# Altium integrated library Linear Technology Operational Amplifiers (LT1000).IntLib: 2280 symbols (part 42 of 79)
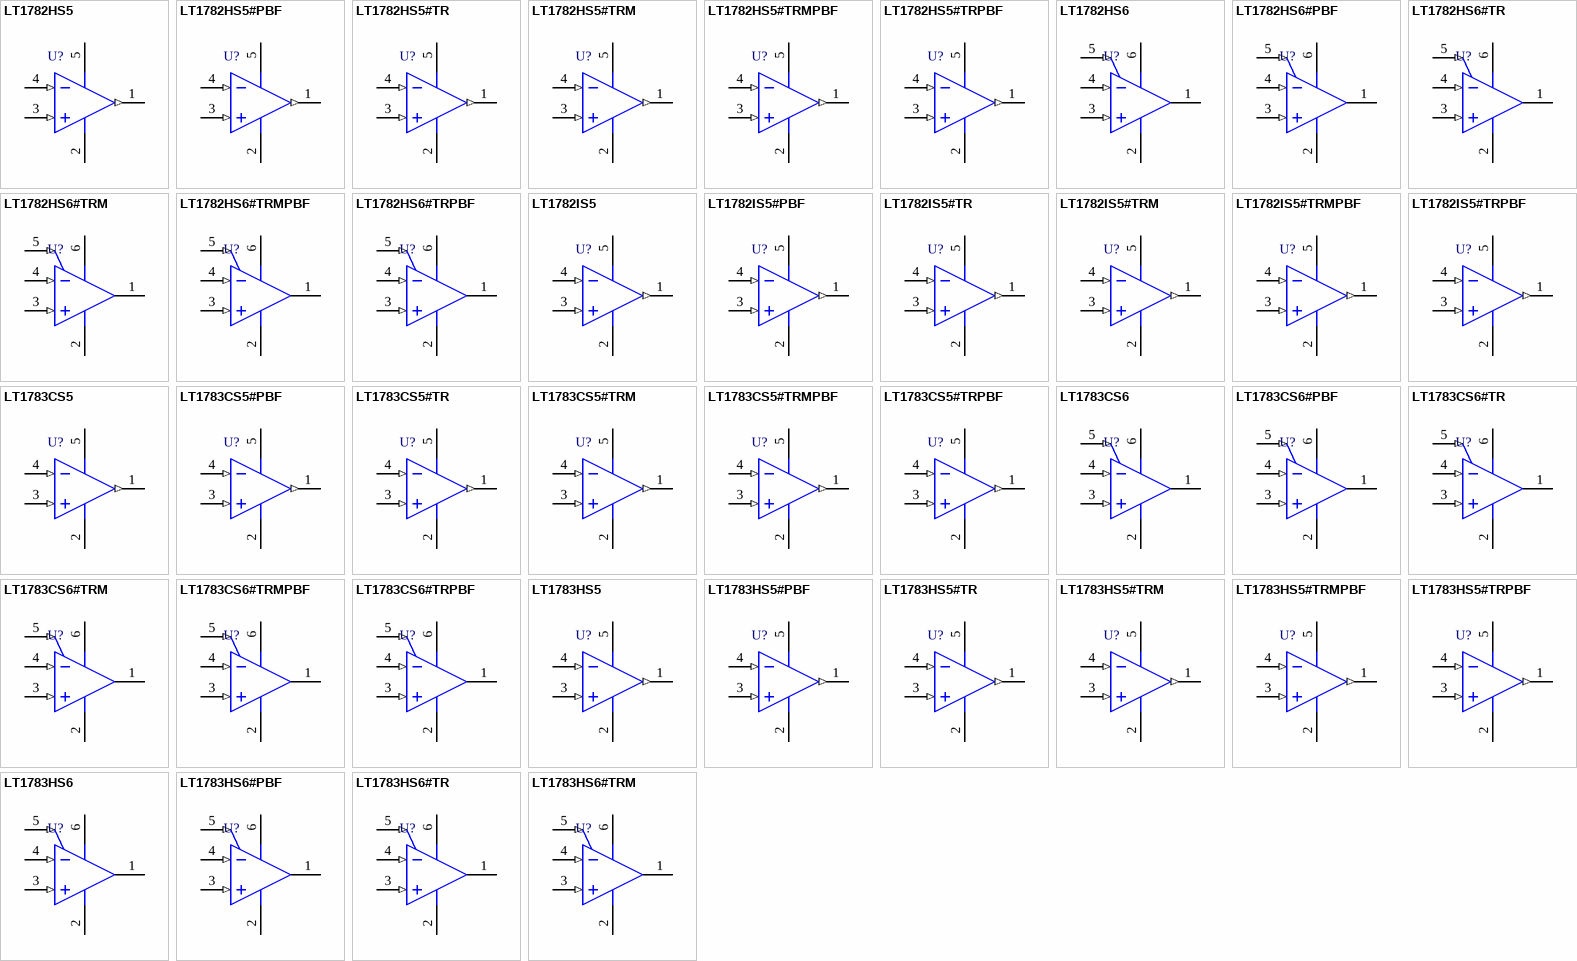
[diagram p146: symbols LT1782HS5 to LT1783HS6#TRM]

## LT1783HS6
designator U?
Single Channel, Micropower, Over-The-Top, Operational Amplifier, RRIO, 1.25 MHz Typical GBW, 0.42 V/us Typical SR, 2.2 to 18 V, 6-Pin SOT23 (S6-6), High Temperature / Automotive; Linear Technology Part Number: LT1783; Manufacturer: Linear Technology; PartNumber: LT1783HS6; Channels (#): 1; GBW (MHz) Typical: 1.25; Is (mA) Typical: 0.21; SR (V/us) Typical: 0.42; Vos (mV) Guaranteed: 0.8; Vos (mV) Typical: 0.4; Vs Max (V): 18; Vs Min (V): 2.2; DatasheetVersion: Rev. D; PackageReference: LT-S6-6-TSOT-23; PackageDescription: 6-Pin Plastic TSOT-23, Body 2.9 x 1.63 mm, Pitch 0.95 mm; Type: VFB; Mounting Technology: Surface Mount; Code_JEDEC: MO-193; ComponentLink1Description: Manufacturer URL; ComponentLink1URL: http://www.linear.com/; ComponentLink2Description: Datasheet; ComponentLink2URL: http://cds.linear.com/docs/en/datasheet/1783fd.pdf; ComponentLink3Description: Package Specification; ComponentLink3URL: http://cds.linear.com/docs/en/packaging/SOT_6_05-08-1636.pdf
footprint LT-S6-6-TSOT-23_N (SOT23, 6-Leads, Body 2.90x1.63mm, Pitch 0.95mm, IPC Medium Density)
footprint LT-S6-6-TSOT-23_L (SOT23, 6-Leads, Body 2.90x1.63mm, Pitch 0.95mm, IPC High Density)
footprint LT-S6-6-TSOT-23_M (SOT23, 6-Leads, Body 2.90x1.63mm, Pitch 0.95mm, IPC Low Density)
pins: 1 OUT (hiz), 2 V- (power), 3 +IN (in), 4 -IN (in), 5 SHDN (in), 6 V+ (power)

## LT1783HS6#PBF
designator U?
Single Channel, Micropower, Over-The-Top, Operational Amplifier, RRIO, 1.25 MHz Typical GBW, 0.42 V/us Typical SR, 2.2 to 18 V, 6-Pin SOT23 (S6-6), High Temperature / Automotive, Pb-Free; Linear Technology Part Number: LT1783; Manufacturer: Linear Technology; PartNumber: LT1783HS6#PBF; Channels (#): 1; GBW (MHz) Typical: 1.25; Is (mA) Typical: 0.21; SR (V/us) Typical: 0.42; Vos (mV) Guaranteed: 0.8; Vos (mV) Typical: 0.4; Vs Max (V): 18; Vs Min (V): 2.2; DatasheetVersion: Rev. D; PackageReference: LT-S6-6-TSOT-23; PackageDescription: 6-Pin Plastic TSOT-23, Body 2.9 x 1.63 mm, Pitch 0.95 mm; Supplier 1: Newark; Supplier Part Number 1: 78T3716; RoHS: Pb-Free; Type: VFB; Mounting Technology: Surface Mount; Code_JEDEC: MO-193; ComponentLink1Description: Manufacturer URL; ComponentLink1URL: http://www.linear.com/; ComponentLink2Description: Datasheet; ComponentLink2URL: http://cds.linear.com/docs/en/datasheet/1783fd.pdf; ComponentLink3Description: Package Specification; ComponentLink3URL: http://cds.linear.com/docs/en/packaging/SOT_6_05-08-1636.pdf
footprint LT-S6-6-TSOT-23_N (SOT23, 6-Leads, Body 2.90x1.63mm, Pitch 0.95mm, IPC Medium Density)
footprint LT-S6-6-TSOT-23_L (SOT23, 6-Leads, Body 2.90x1.63mm, Pitch 0.95mm, IPC High Density)
footprint LT-S6-6-TSOT-23_M (SOT23, 6-Leads, Body 2.90x1.63mm, Pitch 0.95mm, IPC Low Density)
pins: 1 OUT (hiz), 2 V- (power), 3 +IN (in), 4 -IN (in), 5 SHDN (in), 6 V+ (power)

## LT1783HS6#TR
designator U?
Single Channel, Micropower, Over-The-Top, Operational Amplifier, RRIO, 1.25 MHz Typical GBW, 0.42 V/us Typical SR, 2.2 to 18 V, 6-Pin SOT23 (S6-6), High Temperature / Automotive, Reel; Linear Technology Part Number: LT1783; Manufacturer: Linear Technology; PartNumber: LT1783HS6#TR; Channels (#): 1; GBW (MHz) Typical: 1.25; Is (mA) Typical: 0.21; SR (V/us) Typical: 0.42; Vos (mV) Guaranteed: 0.8; Vos (mV) Typical: 0.4; Vs Max (V): 18; Vs Min (V): 2.2; DatasheetVersion: Rev. D; PackageReference: LT-S6-6-TSOT-23; PackageDescription: 6-Pin Plastic TSOT-23, Body 2.9 x 1.63 mm, Pitch 0.95 mm; Supplier 1: Digi-Key; Supplier Part Number 1: LT1783HS6TR-ND; Packing: Reel; Type: VFB; Mounting Technology: Surface Mount; Code_JEDEC: MO-193; ComponentLink1Description: Manufacturer URL; ComponentLink1URL: http://www.linear.com/; ComponentLink2Description: Datasheet; ComponentLink2URL: http://cds.linear.com/docs/en/datasheet/1783fd.pdf; ComponentLink3Description: Package Specification; ComponentLink3URL: http://cds.linear.com/docs/en/packaging/SOT_6_05-08-1636.pdf
footprint LT-S6-6-TSOT-23_N (SOT23, 6-Leads, Body 2.90x1.63mm, Pitch 0.95mm, IPC Medium Density)
footprint LT-S6-6-TSOT-23_L (SOT23, 6-Leads, Body 2.90x1.63mm, Pitch 0.95mm, IPC High Density)
footprint LT-S6-6-TSOT-23_M (SOT23, 6-Leads, Body 2.90x1.63mm, Pitch 0.95mm, IPC Low Density)
pins: 1 OUT (hiz), 2 V- (power), 3 +IN (in), 4 -IN (in), 5 SHDN (in), 6 V+ (power)

## LT1783HS6#TRM
designator U?
Single Channel, Micropower, Over-The-Top, Operational Amplifier, RRIO, 1.25 MHz Typical GBW, 0.42 V/us Typical SR, 2.2 to 18 V, 6-Pin SOT23 (S6-6), High Temperature / Automotive, Mini Reel; Linear Technology Part Number: LT1783; Manufacturer: Linear Technology; PartNumber: LT1783HS6#TRM; Channels (#): 1; GBW (MHz) Typical: 1.25; Is (mA) Typical: 0.21; SR (V/us) Typical: 0.42; Vos (mV) Guaranteed: 0.8; Vos (mV) Typical: 0.4; Vs Max (V): 18; Vs Min (V): 2.2; DatasheetVersion: Rev. D; PackageReference: LT-S6-6-TSOT-23; PackageDescription: 6-Pin Plastic TSOT-23, Body 2.9 x 1.63 mm, Pitch 0.95 mm; Supplier 1: Digi-Key; Supplier Part Number 1: LT1783HS6#TRM-ND; Packing: Mini Reel; Type: VFB; Mounting Technology: Surface Mount; Code_JEDEC: MO-193; ComponentLink1Description: Manufacturer URL; ComponentLink1URL: http://www.linear.com/; ComponentLink2Description: Datasheet; ComponentLink2URL: http://cds.linear.com/docs/en/datasheet/1783fd.pdf; ComponentLink3Description: Package Specification; ComponentLink3URL: http://cds.linear.com/docs/en/packaging/SOT_6_05-08-1636.pdf
footprint LT-S6-6-TSOT-23_N (SOT23, 6-Leads, Body 2.90x1.63mm, Pitch 0.95mm, IPC Medium Density)
footprint LT-S6-6-TSOT-23_L (SOT23, 6-Leads, Body 2.90x1.63mm, Pitch 0.95mm, IPC High Density)
footprint LT-S6-6-TSOT-23_M (SOT23, 6-Leads, Body 2.90x1.63mm, Pitch 0.95mm, IPC Low Density)
pins: 1 OUT (hiz), 2 V- (power), 3 +IN (in), 4 -IN (in), 5 SHDN (in), 6 V+ (power)

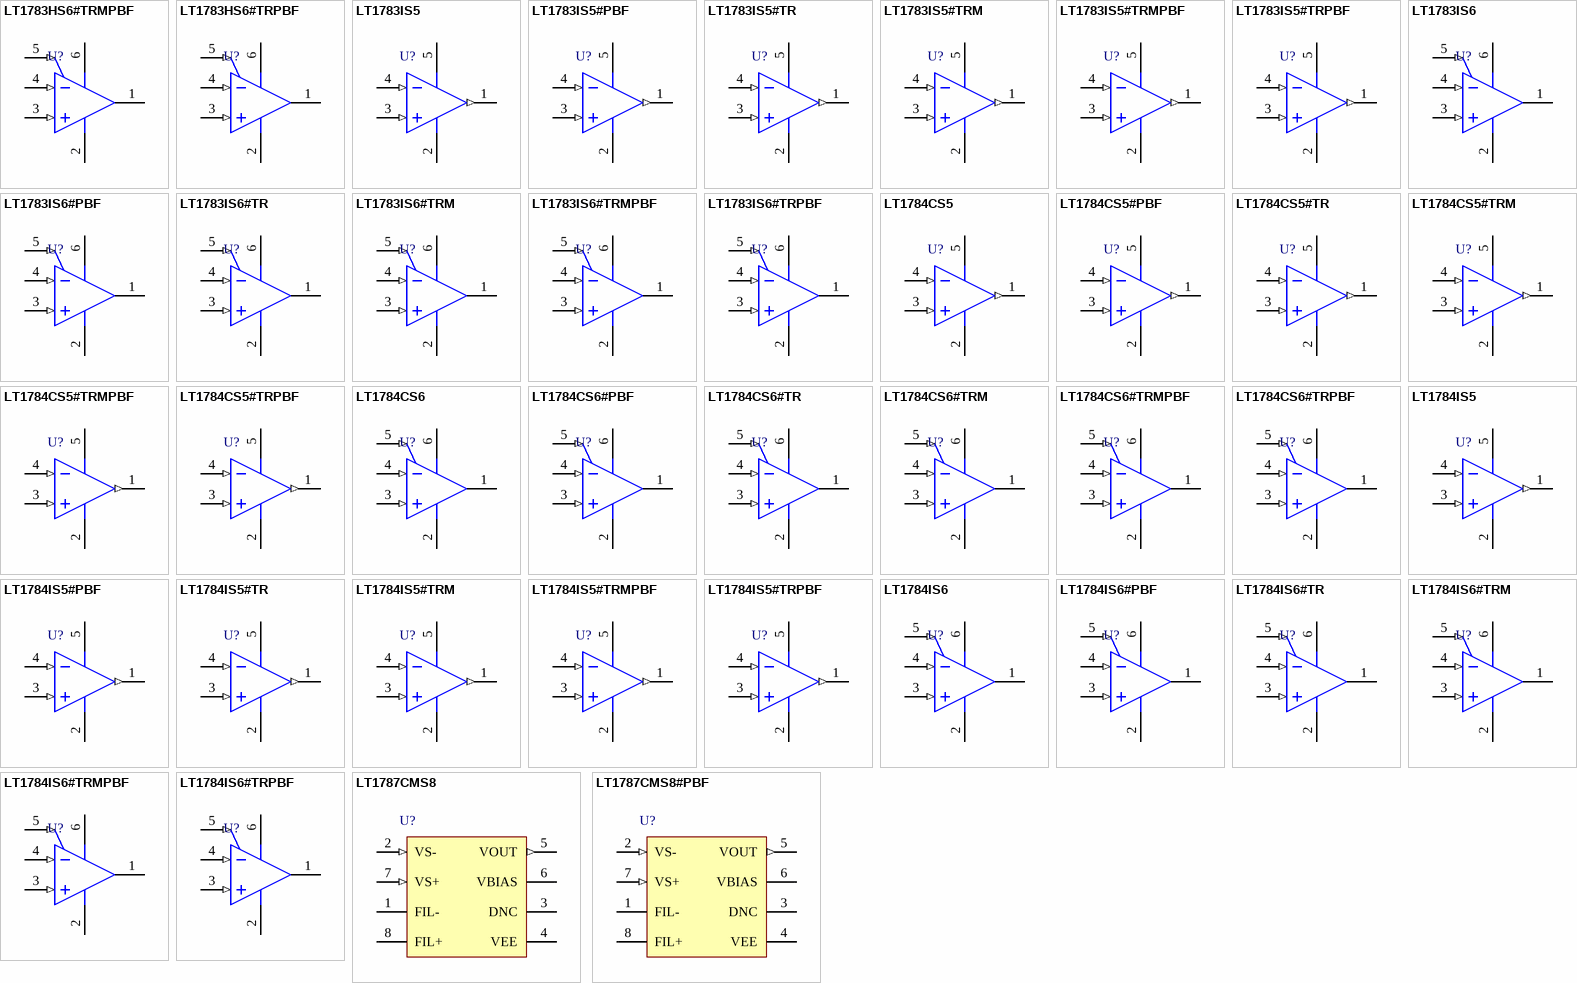
[diagram p70: symbols LT1783HS6#TRMPBF to LT1787CMS8#PBF]

## LT1783HS6#TRMPBF
designator U?
Single Channel, Micropower, Over-The-Top, Operational Amplifier, RRIO, 1.25 MHz Typical GBW, 0.42 V/us Typical SR, 2.2 to 18 V, 6-Pin SOT23 (S6-6), High Temperature / Automotive, Pb-Free, Mini Reel; Linear Technology Part Number: LT1783; Manufacturer: Linear Technology; PartNumber: LT1783HS6#TRMPBF; Channels (#): 1; GBW (MHz) Typical: 1.25; Is (mA) Typical: 0.21; SR (V/us) Typical: 0.42; Vos (mV) Guaranteed: 0.8; Vos (mV) Typical: 0.4; Vs Max (V): 18; Vs Min (V): 2.2; DatasheetVersion: Rev. D; PackageReference: LT-S6-6-TSOT-23; PackageDescription: 6-Pin Plastic TSOT-23, Body 2.9 x 1.63 mm, Pitch 0.95 mm; Supplier 1: Digi-Key; Supplier Part Number 1: LT1783HS6#TRMPBF-ND; Packing: Mini Reel; RoHS: Pb-Free; Type: VFB; Mounting Technology: Surface Mount; Code_JEDEC: MO-193; ComponentLink1Description: Manufacturer URL; ComponentLink1URL: http://www.linear.com/; ComponentLink2Description: Datasheet; ComponentLink2URL: http://cds.linear.com/docs/en/datasheet/1783fd.pdf; ComponentLink3Description: Package Specification; ComponentLink3URL: http://cds.linear.com/docs/en/packaging/SOT_6_05-08-1636.pdf
footprint LT-S6-6-TSOT-23_N (SOT23, 6-Leads, Body 2.90x1.63mm, Pitch 0.95mm, IPC Medium Density)
footprint LT-S6-6-TSOT-23_L (SOT23, 6-Leads, Body 2.90x1.63mm, Pitch 0.95mm, IPC High Density)
footprint LT-S6-6-TSOT-23_M (SOT23, 6-Leads, Body 2.90x1.63mm, Pitch 0.95mm, IPC Low Density)
pins: 1 OUT (hiz), 2 V- (power), 3 +IN (in), 4 -IN (in), 5 SHDN (in), 6 V+ (power)

## LT1783HS6#TRPBF
designator U?
Single Channel, Micropower, Over-The-Top, Operational Amplifier, RRIO, 1.25 MHz Typical GBW, 0.42 V/us Typical SR, 2.2 to 18 V, 6-Pin SOT23 (S6-6), High Temperature / Automotive, Pb-Free, Reel; Linear Technology Part Number: LT1783; Manufacturer: Linear Technology; PartNumber: LT1783HS6#TRPBF; Channels (#): 1; GBW (MHz) Typical: 1.25; Is (mA) Typical: 0.21; SR (V/us) Typical: 0.42; Vos (mV) Guaranteed: 0.8; Vos (mV) Typical: 0.4; Vs Max (V): 18; Vs Min (V): 2.2; DatasheetVersion: Rev. D; PackageReference: LT-S6-6-TSOT-23; PackageDescription: 6-Pin Plastic TSOT-23, Body 2.9 x 1.63 mm, Pitch 0.95 mm; Supplier 1: Digi-Key; Supplier Part Number 1: LT1783HS6#TRPBF-ND; Packing: Reel; RoHS: Pb-Free; Type: VFB; Mounting Technology: Surface Mount; Code_JEDEC: MO-193; ComponentLink1Description: Manufacturer URL; ComponentLink1URL: http://www.linear.com/; ComponentLink2Description: Datasheet; ComponentLink2URL: http://cds.linear.com/docs/en/datasheet/1783fd.pdf; ComponentLink3Description: Package Specification; ComponentLink3URL: http://cds.linear.com/docs/en/packaging/SOT_6_05-08-1636.pdf
footprint LT-S6-6-TSOT-23_N (SOT23, 6-Leads, Body 2.90x1.63mm, Pitch 0.95mm, IPC Medium Density)
footprint LT-S6-6-TSOT-23_L (SOT23, 6-Leads, Body 2.90x1.63mm, Pitch 0.95mm, IPC High Density)
footprint LT-S6-6-TSOT-23_M (SOT23, 6-Leads, Body 2.90x1.63mm, Pitch 0.95mm, IPC Low Density)
pins: 1 OUT (hiz), 2 V- (power), 3 +IN (in), 4 -IN (in), 5 SHDN (in), 6 V+ (power)

## LT1783IS5
designator U?
Single Channel, Micropower, Over-The-Top, Operational Amplifier, RRIO, 1.25 MHz Typical GBW, 0.42 V/us Typical SR, 2.2 to 18 V, 5-Pin SOT23 (S5-5), Industrial; Linear Technology Part Number: LT1783; Manufacturer: Linear Technology; PartNumber: LT1783IS5; Channels (#): 1; GBW (MHz) Typical: 1.25; Is (mA) Typical: 0.21; SR (V/us) Typical: 0.42; Vos (mV) Guaranteed: 0.8; Vos (mV) Typical: 0.4; Vs Max (V): 18; Vs Min (V): 2.2; DatasheetVersion: Rev. D; PackageReference: LT-S5-5-TSOT-23; PackageDescription: 5-Lead Plastic TSOT-23, Body 1.63 x 2.90 mm, Pitch 0.95 mm; Supplier 1: Newark; Supplier Part Number 1: 14R9706; Type: VFB; Mounting Technology: Surface Mount; Code_JEDEC: MO-193; ComponentLink1Description: Manufacturer URL; ComponentLink1URL: http://www.linear.com/; ComponentLink2Description: Datasheet; ComponentLink2URL: http://cds.linear.com/docs/en/datasheet/1783fd.pdf; ComponentLink3Description: Package Specification; ComponentLink3URL: http://cds.linear.com/docs/en/packaging/SOT_5_05-08-1635.pdf
footprint LT-S5-5-TSOT-23_N (SOT23, 5-Leads, Body 2.90x1.63mm, Pitch 0.95mm, IPC Medium Density)
footprint LT-S5-5-TSOT-23_L (SOT23, 5-Leads, Body 2.90x1.63mm, Pitch 0.95mm, IPC High Density)
footprint LT-S5-5-TSOT-23_M (SOT23, 5-Leads, Body 2.90x1.63mm, Pitch 0.95mm, IPC Low Density)
pins: 1 OUT (out), 2 V- (power), 3 +IN (in), 4 -IN (in), 5 V+ (power)

## LT1783IS5#PBF
designator U?
Single Channel, Micropower, Over-The-Top, Operational Amplifier, RRIO, 1.25 MHz Typical GBW, 0.42 V/us Typical SR, 2.2 to 18 V, 5-Pin SOT23 (S5-5), Industrial, Pb-Free; Linear Technology Part Number: LT1783; Manufacturer: Linear Technology; PartNumber: LT1783IS5#PBF; Channels (#): 1; GBW (MHz) Typical: 1.25; Is (mA) Typical: 0.21; SR (V/us) Typical: 0.42; Vos (mV) Guaranteed: 0.8; Vos (mV) Typical: 0.4; Vs Max (V): 18; Vs Min (V): 2.2; DatasheetVersion: Rev. D; PackageReference: LT-S5-5-TSOT-23; PackageDescription: 5-Lead Plastic TSOT-23, Body 1.63 x 2.90 mm, Pitch 0.95 mm; Supplier 1: Farnell; Supplier Part Number 1: 2115808; Supplier 2: Newark; Supplier Part Number 2: 61M3362; RoHS: Pb-Free; Type: VFB; Mounting Technology: Surface Mount; Code_JEDEC: MO-193; ComponentLink1Description: Manufacturer URL; ComponentLink1URL: http://www.linear.com/; ComponentLink2Description: Datasheet; ComponentLink2URL: http://cds.linear.com/docs/en/datasheet/1783fd.pdf; ComponentLink3Description: Package Specification; ComponentLink3URL: http://cds.linear.com/docs/en/packaging/SOT_5_05-08-1635.pdf
footprint LT-S5-5-TSOT-23_N (SOT23, 5-Leads, Body 2.90x1.63mm, Pitch 0.95mm, IPC Medium Density)
footprint LT-S5-5-TSOT-23_L (SOT23, 5-Leads, Body 2.90x1.63mm, Pitch 0.95mm, IPC High Density)
footprint LT-S5-5-TSOT-23_M (SOT23, 5-Leads, Body 2.90x1.63mm, Pitch 0.95mm, IPC Low Density)
pins: 1 OUT (out), 2 V- (power), 3 +IN (in), 4 -IN (in), 5 V+ (power)

## LT1783IS5#TR
designator U?
Single Channel, Micropower, Over-The-Top, Operational Amplifier, RRIO, 1.25 MHz Typical GBW, 0.42 V/us Typical SR, 2.2 to 18 V, 5-Pin SOT23 (S5-5), Industrial, Reel; Linear Technology Part Number: LT1783; Manufacturer: Linear Technology; PartNumber: LT1783IS5#TR; Channels (#): 1; GBW (MHz) Typical: 1.25; Is (mA) Typical: 0.21; SR (V/us) Typical: 0.42; Vos (mV) Guaranteed: 0.8; Vos (mV) Typical: 0.4; Vs Max (V): 18; Vs Min (V): 2.2; DatasheetVersion: Rev. D; PackageReference: LT-S5-5-TSOT-23; PackageDescription: 5-Lead Plastic TSOT-23, Body 1.63 x 2.90 mm, Pitch 0.95 mm; Supplier 1: Digi-Key; Supplier Part Number 1: LT1783IS5TR-ND; Supplier 2: Newark; Supplier Part Number 2: 57M6378; Packing: Reel; Type: VFB; Mounting Technology: Surface Mount; Code_JEDEC: MO-193; ComponentLink1Description: Manufacturer URL; ComponentLink1URL: http://www.linear.com/; ComponentLink2Description: Datasheet; ComponentLink2URL: http://cds.linear.com/docs/en/datasheet/1783fd.pdf; ComponentLink3Description: Package Specification; ComponentLink3URL: http://cds.linear.com/docs/en/packaging/SOT_5_05-08-1635.pdf
footprint LT-S5-5-TSOT-23_N (SOT23, 5-Leads, Body 2.90x1.63mm, Pitch 0.95mm, IPC Medium Density)
footprint LT-S5-5-TSOT-23_L (SOT23, 5-Leads, Body 2.90x1.63mm, Pitch 0.95mm, IPC High Density)
footprint LT-S5-5-TSOT-23_M (SOT23, 5-Leads, Body 2.90x1.63mm, Pitch 0.95mm, IPC Low Density)
pins: 1 OUT (out), 2 V- (power), 3 +IN (in), 4 -IN (in), 5 V+ (power)

## LT1783IS5#TRM
designator U?
Single Channel, Micropower, Over-The-Top, Operational Amplifier, RRIO, 1.25 MHz Typical GBW, 0.42 V/us Typical SR, 2.2 to 18 V, 5-Pin SOT23 (S5-5), Industrial, Mini Reel; Linear Technology Part Number: LT1783; Manufacturer: Linear Technology; PartNumber: LT1783IS5#TRM; Channels (#): 1; GBW (MHz) Typical: 1.25; Is (mA) Typical: 0.21; SR (V/us) Typical: 0.42; Vos (mV) Guaranteed: 0.8; Vos (mV) Typical: 0.4; Vs Max (V): 18; Vs Min (V): 2.2; DatasheetVersion: Rev. D; PackageReference: LT-S5-5-TSOT-23; PackageDescription: 5-Lead Plastic TSOT-23, Body 1.63 x 2.90 mm, Pitch 0.95 mm; Supplier 1: Digi-Key; Supplier Part Number 1: LT1783IS5#TRMTR-ND; Supplier 2: Digi-Key; Supplier Part Number 2: LT1783IS5#TRMCT-ND; Supplier 3: Newark; Supplier Part Number 3: 57M6379; Packing: Mini Reel; Type: VFB; Mounting Technology: Surface Mount; Code_JEDEC: MO-193; ComponentLink1Description: Manufacturer URL; ComponentLink1URL: http://www.linear.com/; ComponentLink2Description: Datasheet; ComponentLink2URL: http://cds.linear.com/docs/en/datasheet/1783fd.pdf; ComponentLink3Description: Package Specification; ComponentLink3URL: http://cds.linear.com/docs/en/packaging/SOT_5_05-08-1635.pdf
footprint LT-S5-5-TSOT-23_N (SOT23, 5-Leads, Body 2.90x1.63mm, Pitch 0.95mm, IPC Medium Density)
footprint LT-S5-5-TSOT-23_L (SOT23, 5-Leads, Body 2.90x1.63mm, Pitch 0.95mm, IPC High Density)
footprint LT-S5-5-TSOT-23_M (SOT23, 5-Leads, Body 2.90x1.63mm, Pitch 0.95mm, IPC Low Density)
pins: 1 OUT (out), 2 V- (power), 3 +IN (in), 4 -IN (in), 5 V+ (power)

## LT1783IS5#TRMPBF
designator U?
Single Channel, Micropower, Over-The-Top, Operational Amplifier, RRIO, 1.25 MHz Typical GBW, 0.42 V/us Typical SR, 2.2 to 18 V, 5-Pin SOT23 (S5-5), Industrial, Pb-Free, Mini Reel; Linear Technology Part Number: LT1783; Manufacturer: Linear Technology; PartNumber: LT1783IS5#TRMPBF; Channels (#): 1; GBW (MHz) Typical: 1.25; Is (mA) Typical: 0.21; SR (V/us) Typical: 0.42; Vos (mV) Guaranteed: 0.8; Vos (mV) Typical: 0.4; Vs Max (V): 18; Vs Min (V): 2.2; DatasheetVersion: Rev. D; PackageReference: LT-S5-5-TSOT-23; PackageDescription: 5-Lead Plastic TSOT-23, Body 1.63 x 2.90 mm, Pitch 0.95 mm; Supplier 1: Digi-Key; Supplier Part Number 1: LT1783IS5#TRMPBFTR-ND; Supplier 2: Digi-Key; Supplier Part Number 2: LT1783IS5#TRMPBFCT-ND; Supplier 3: Digi-Key; Supplier Part Number 3: LT1783IS5#TRMPBFDKR-ND; Supplier 4: Farnell; Supplier Part Number 4: 1663789; Supplier 5: Farnell; Supplier Part Number 5: 1663789RL; Supplier 6: Newark; Supplier Part Number 6: 57M6380; Packing: Mini Reel; RoHS: Pb-Free; Type: VFB; Mounting Technology: Surface Mount; Code_JEDEC: MO-193; ComponentLink1Description: Manufacturer URL; ComponentLink1URL: http://www.linear.com/; ComponentLink2Description: Datasheet; ComponentLink2URL: http://cds.linear.com/docs/en/datasheet/1783fd.pdf; ComponentLink3Description: Package Specification; ComponentLink3URL: http://cds.linear.com/docs/en/packaging/SOT_5_05-08-1635.pdf
footprint LT-S5-5-TSOT-23_N (SOT23, 5-Leads, Body 2.90x1.63mm, Pitch 0.95mm, IPC Medium Density)
footprint LT-S5-5-TSOT-23_L (SOT23, 5-Leads, Body 2.90x1.63mm, Pitch 0.95mm, IPC High Density)
footprint LT-S5-5-TSOT-23_M (SOT23, 5-Leads, Body 2.90x1.63mm, Pitch 0.95mm, IPC Low Density)
pins: 1 OUT (out), 2 V- (power), 3 +IN (in), 4 -IN (in), 5 V+ (power)

## LT1783IS5#TRPBF
designator U?
Single Channel, Micropower, Over-The-Top, Operational Amplifier, RRIO, 1.25 MHz Typical GBW, 0.42 V/us Typical SR, 2.2 to 18 V, 5-Pin SOT23 (S5-5), Industrial, Pb-Free, Reel; Linear Technology Part Number: LT1783; Manufacturer: Linear Technology; PartNumber: LT1783IS5#TRPBF; Channels (#): 1; GBW (MHz) Typical: 1.25; Is (mA) Typical: 0.21; SR (V/us) Typical: 0.42; Vos (mV) Guaranteed: 0.8; Vos (mV) Typical: 0.4; Vs Max (V): 18; Vs Min (V): 2.2; DatasheetVersion: Rev. D; PackageReference: LT-S5-5-TSOT-23; PackageDescription: 5-Lead Plastic TSOT-23, Body 1.63 x 2.90 mm, Pitch 0.95 mm; Supplier 1: Digi-Key; Supplier Part Number 1: LT1783IS5#TRPBF-ND; Supplier 2: Newark; Supplier Part Number 2: 57M6381; Packing: Reel; RoHS: Pb-Free; Type: VFB; Mounting Technology: Surface Mount; Code_JEDEC: MO-193; ComponentLink1Description: Manufacturer URL; ComponentLink1URL: http://www.linear.com/; ComponentLink2Description: Datasheet; ComponentLink2URL: http://cds.linear.com/docs/en/datasheet/1783fd.pdf; ComponentLink3Description: Package Specification; ComponentLink3URL: http://cds.linear.com/docs/en/packaging/SOT_5_05-08-1635.pdf
footprint LT-S5-5-TSOT-23_N (SOT23, 5-Leads, Body 2.90x1.63mm, Pitch 0.95mm, IPC Medium Density)
footprint LT-S5-5-TSOT-23_L (SOT23, 5-Leads, Body 2.90x1.63mm, Pitch 0.95mm, IPC High Density)
footprint LT-S5-5-TSOT-23_M (SOT23, 5-Leads, Body 2.90x1.63mm, Pitch 0.95mm, IPC Low Density)
pins: 1 OUT (out), 2 V- (power), 3 +IN (in), 4 -IN (in), 5 V+ (power)

## LT1783IS6
designator U?
Single Channel, Micropower, Over-The-Top, Operational Amplifier, RRIO, 1.25 MHz Typical GBW, 0.42 V/us Typical SR, 2.2 to 18 V, 6-Pin SOT23 (S6-6), Industrial; Linear Technology Part Number: LT1783; Manufacturer: Linear Technology; PartNumber: LT1783IS6; Channels (#): 1; GBW (MHz) Typical: 1.25; Is (mA) Typical: 0.21; SR (V/us) Typical: 0.42; Vos (mV) Guaranteed: 0.8; Vos (mV) Typical: 0.4; Vs Max (V): 18; Vs Min (V): 2.2; DatasheetVersion: Rev. D; PackageReference: LT-S6-6-TSOT-23; PackageDescription: 6-Pin Plastic TSOT-23, Body 2.9 x 1.63 mm, Pitch 0.95 mm; Type: VFB; Mounting Technology: Surface Mount; Code_JEDEC: MO-193; ComponentLink1Description: Manufacturer URL; ComponentLink1URL: http://www.linear.com/; ComponentLink2Description: Datasheet; ComponentLink2URL: http://cds.linear.com/docs/en/datasheet/1783fd.pdf; ComponentLink3Description: Package Specification; ComponentLink3URL: http://cds.linear.com/docs/en/packaging/SOT_6_05-08-1636.pdf
footprint LT-S6-6-TSOT-23_N (SOT23, 6-Leads, Body 2.90x1.63mm, Pitch 0.95mm, IPC Medium Density)
footprint LT-S6-6-TSOT-23_L (SOT23, 6-Leads, Body 2.90x1.63mm, Pitch 0.95mm, IPC High Density)
footprint LT-S6-6-TSOT-23_M (SOT23, 6-Leads, Body 2.90x1.63mm, Pitch 0.95mm, IPC Low Density)
pins: 1 OUT (hiz), 2 V- (power), 3 +IN (in), 4 -IN (in), 5 SHDN (in), 6 V+ (power)

## LT1783IS6#PBF
designator U?
Single Channel, Micropower, Over-The-Top, Operational Amplifier, RRIO, 1.25 MHz Typical GBW, 0.42 V/us Typical SR, 2.2 to 18 V, 6-Pin SOT23 (S6-6), Industrial, Pb-Free; Linear Technology Part Number: LT1783; Manufacturer: Linear Technology; PartNumber: LT1783IS6#PBF; Channels (#): 1; GBW (MHz) Typical: 1.25; Is (mA) Typical: 0.21; SR (V/us) Typical: 0.42; Vos (mV) Guaranteed: 0.8; Vos (mV) Typical: 0.4; Vs Max (V): 18; Vs Min (V): 2.2; DatasheetVersion: Rev. D; PackageReference: LT-S6-6-TSOT-23; PackageDescription: 6-Pin Plastic TSOT-23, Body 2.9 x 1.63 mm, Pitch 0.95 mm; Supplier 1: Newark; Supplier Part Number 1: 78T3717; RoHS: Pb-Free; Type: VFB; Mounting Technology: Surface Mount; Code_JEDEC: MO-193; ComponentLink1Description: Manufacturer URL; ComponentLink1URL: http://www.linear.com/; ComponentLink2Description: Datasheet; ComponentLink2URL: http://cds.linear.com/docs/en/datasheet/1783fd.pdf; ComponentLink3Description: Package Specification; ComponentLink3URL: http://cds.linear.com/docs/en/packaging/SOT_6_05-08-1636.pdf
footprint LT-S6-6-TSOT-23_N (SOT23, 6-Leads, Body 2.90x1.63mm, Pitch 0.95mm, IPC Medium Density)
footprint LT-S6-6-TSOT-23_L (SOT23, 6-Leads, Body 2.90x1.63mm, Pitch 0.95mm, IPC High Density)
footprint LT-S6-6-TSOT-23_M (SOT23, 6-Leads, Body 2.90x1.63mm, Pitch 0.95mm, IPC Low Density)
pins: 1 OUT (hiz), 2 V- (power), 3 +IN (in), 4 -IN (in), 5 SHDN (in), 6 V+ (power)

## LT1783IS6#TR
designator U?
Single Channel, Micropower, Over-The-Top, Operational Amplifier, RRIO, 1.25 MHz Typical GBW, 0.42 V/us Typical SR, 2.2 to 18 V, 6-Pin SOT23 (S6-6), Industrial, Reel; Linear Technology Part Number: LT1783; Manufacturer: Linear Technology; PartNumber: LT1783IS6#TR; Channels (#): 1; GBW (MHz) Typical: 1.25; Is (mA) Typical: 0.21; SR (V/us) Typical: 0.42; Vos (mV) Guaranteed: 0.8; Vos (mV) Typical: 0.4; Vs Max (V): 18; Vs Min (V): 2.2; DatasheetVersion: Rev. D; PackageReference: LT-S6-6-TSOT-23; PackageDescription: 6-Pin Plastic TSOT-23, Body 2.9 x 1.63 mm, Pitch 0.95 mm; Supplier 1: Digi-Key; Supplier Part Number 1: LT1783IS6TR-ND; Packing: Reel; Type: VFB; Mounting Technology: Surface Mount; Code_JEDEC: MO-193; ComponentLink1Description: Manufacturer URL; ComponentLink1URL: http://www.linear.com/; ComponentLink2Description: Datasheet; ComponentLink2URL: http://cds.linear.com/docs/en/datasheet/1783fd.pdf; ComponentLink3Description: Package Specification; ComponentLink3URL: http://cds.linear.com/docs/en/packaging/SOT_6_05-08-1636.pdf
footprint LT-S6-6-TSOT-23_N (SOT23, 6-Leads, Body 2.90x1.63mm, Pitch 0.95mm, IPC Medium Density)
footprint LT-S6-6-TSOT-23_L (SOT23, 6-Leads, Body 2.90x1.63mm, Pitch 0.95mm, IPC High Density)
footprint LT-S6-6-TSOT-23_M (SOT23, 6-Leads, Body 2.90x1.63mm, Pitch 0.95mm, IPC Low Density)
pins: 1 OUT (hiz), 2 V- (power), 3 +IN (in), 4 -IN (in), 5 SHDN (in), 6 V+ (power)

## LT1783IS6#TRM
designator U?
Single Channel, Micropower, Over-The-Top, Operational Amplifier, RRIO, 1.25 MHz Typical GBW, 0.42 V/us Typical SR, 2.2 to 18 V, 6-Pin SOT23 (S6-6), Industrial, Mini Reel; Linear Technology Part Number: LT1783; Manufacturer: Linear Technology; PartNumber: LT1783IS6#TRM; Channels (#): 1; GBW (MHz) Typical: 1.25; Is (mA) Typical: 0.21; SR (V/us) Typical: 0.42; Vos (mV) Guaranteed: 0.8; Vos (mV) Typical: 0.4; Vs Max (V): 18; Vs Min (V): 2.2; DatasheetVersion: Rev. D; PackageReference: LT-S6-6-TSOT-23; PackageDescription: 6-Pin Plastic TSOT-23, Body 2.9 x 1.63 mm, Pitch 0.95 mm; Supplier 1: Digi-Key; Supplier Part Number 1: LT1783IS6#TRMTR-ND; Supplier 2: Digi-Key; Supplier Part Number 2: LT1783IS6#TRMCT-ND; Packing: Mini Reel; Type: VFB; Mounting Technology: Surface Mount; Code_JEDEC: MO-193; ComponentLink1Description: Manufacturer URL; ComponentLink1URL: http://www.linear.com/; ComponentLink2Description: Datasheet; ComponentLink2URL: http://cds.linear.com/docs/en/datasheet/1783fd.pdf; ComponentLink3Description: Package Specification; ComponentLink3URL: http://cds.linear.com/docs/en/packaging/SOT_6_05-08-1636.pdf
footprint LT-S6-6-TSOT-23_N (SOT23, 6-Leads, Body 2.90x1.63mm, Pitch 0.95mm, IPC Medium Density)
footprint LT-S6-6-TSOT-23_L (SOT23, 6-Leads, Body 2.90x1.63mm, Pitch 0.95mm, IPC High Density)
footprint LT-S6-6-TSOT-23_M (SOT23, 6-Leads, Body 2.90x1.63mm, Pitch 0.95mm, IPC Low Density)
pins: 1 OUT (hiz), 2 V- (power), 3 +IN (in), 4 -IN (in), 5 SHDN (in), 6 V+ (power)

## LT1783IS6#TRMPBF
designator U?
Single Channel, Micropower, Over-The-Top, Operational Amplifier, RRIO, 1.25 MHz Typical GBW, 0.42 V/us Typical SR, 2.2 to 18 V, 6-Pin SOT23 (S6-6), Industrial, Pb-Free, Mini Reel; Linear Technology Part Number: LT1783; Manufacturer: Linear Technology; PartNumber: LT1783IS6#TRMPBF; Channels (#): 1; GBW (MHz) Typical: 1.25; Is (mA) Typical: 0.21; SR (V/us) Typical: 0.42; Vos (mV) Guaranteed: 0.8; Vos (mV) Typical: 0.4; Vs Max (V): 18; Vs Min (V): 2.2; DatasheetVersion: Rev. D; PackageReference: LT-S6-6-TSOT-23; PackageDescription: 6-Pin Plastic TSOT-23, Body 2.9 x 1.63 mm, Pitch 0.95 mm; Supplier 1: Digi-Key; Supplier Part Number 1: LT1783IS6#TRMPBFTR-ND; Supplier 2: Digi-Key; Supplier Part Number 2: LT1783IS6#TRMPBFCT-ND; Supplier 3: Digi-Key; Supplier Part Number 3: LT1783IS6#TRMPBFDKR-ND; Supplier 4: Newark; Supplier Part Number 4: 57M6384; Packing: Mini Reel; RoHS: Pb-Free; Type: VFB; Mounting Technology: Surface Mount; Code_JEDEC: MO-193; ComponentLink1Description: Manufacturer URL; ComponentLink1URL: http://www.linear.com/; ComponentLink2Description: Datasheet; ComponentLink2URL: http://cds.linear.com/docs/en/datasheet/1783fd.pdf; ComponentLink3Description: Package Specification; ComponentLink3URL: http://cds.linear.com/docs/en/packaging/SOT_6_05-08-1636.pdf
footprint LT-S6-6-TSOT-23_N (SOT23, 6-Leads, Body 2.90x1.63mm, Pitch 0.95mm, IPC Medium Density)
footprint LT-S6-6-TSOT-23_L (SOT23, 6-Leads, Body 2.90x1.63mm, Pitch 0.95mm, IPC High Density)
footprint LT-S6-6-TSOT-23_M (SOT23, 6-Leads, Body 2.90x1.63mm, Pitch 0.95mm, IPC Low Density)
pins: 1 OUT (hiz), 2 V- (power), 3 +IN (in), 4 -IN (in), 5 SHDN (in), 6 V+ (power)

## LT1783IS6#TRPBF
designator U?
Single Channel, Micropower, Over-The-Top, Operational Amplifier, RRIO, 1.25 MHz Typical GBW, 0.42 V/us Typical SR, 2.2 to 18 V, 6-Pin SOT23 (S6-6), Industrial, Pb-Free, Reel; Linear Technology Part Number: LT1783; Manufacturer: Linear Technology; PartNumber: LT1783IS6#TRPBF; Channels (#): 1; GBW (MHz) Typical: 1.25; Is (mA) Typical: 0.21; SR (V/us) Typical: 0.42; Vos (mV) Guaranteed: 0.8; Vos (mV) Typical: 0.4; Vs Max (V): 18; Vs Min (V): 2.2; DatasheetVersion: Rev. D; PackageReference: LT-S6-6-TSOT-23; PackageDescription: 6-Pin Plastic TSOT-23, Body 2.9 x 1.63 mm, Pitch 0.95 mm; Supplier 1: Digi-Key; Supplier Part Number 1: LT1783IS6#TRPBF-ND; Supplier 2: Newark; Supplier Part Number 2: 57M6385; Packing: Reel; RoHS: Pb-Free; Type: VFB; Mounting Technology: Surface Mount; Code_JEDEC: MO-193; ComponentLink1Description: Manufacturer URL; ComponentLink1URL: http://www.linear.com/; ComponentLink2Description: Datasheet; ComponentLink2URL: http://cds.linear.com/docs/en/datasheet/1783fd.pdf; ComponentLink3Description: Package Specification; ComponentLink3URL: http://cds.linear.com/docs/en/packaging/SOT_6_05-08-1636.pdf
footprint LT-S6-6-TSOT-23_N (SOT23, 6-Leads, Body 2.90x1.63mm, Pitch 0.95mm, IPC Medium Density)
footprint LT-S6-6-TSOT-23_L (SOT23, 6-Leads, Body 2.90x1.63mm, Pitch 0.95mm, IPC High Density)
footprint LT-S6-6-TSOT-23_M (SOT23, 6-Leads, Body 2.90x1.63mm, Pitch 0.95mm, IPC Low Density)
pins: 1 OUT (hiz), 2 V- (power), 3 +IN (in), 4 -IN (in), 5 SHDN (in), 6 V+ (power)

## LT1784CS5
designator U?
Single Channel, Low Power Operational Amplifier with Shutdown, RRIO, 2.5 MHz Typical GBW, 2.1 V/us Typical SR, 2 to 18 V, 5-Pin SOT23 (S5-5), Commercial; Linear Technology Part Number: LT1784; Manufacturer: Linear Technology; PartNumber: LT1784CS5; Channels (#): 1; GBW (MHz) Typical: 2.5; Is (mA) Typical: 0.5; SR (V/us) Typical: 2.1; Vos (mV) Guaranteed: 3.5; Vos (mV) Typical: 1.5; Vs Max (V): 18; Vs Min (V): 2; DatasheetVersion: Rev. A; PackageReference: LT-S5-5-TSOT-23; PackageDescription: 5-Lead Plastic TSOT-23, Body 1.63 x 2.90 mm, Pitch 0.95 mm; Type: VFB; Mounting Technology: Surface Mount; Code_JEDEC: MO-193; ComponentLink1Description: Manufacturer URL; ComponentLink1URL: http://www.linear.com/; ComponentLink2Description: Datasheet; ComponentLink2URL: http://cds.linear.com/docs/en/datasheet/1784fa.pdf; ComponentLink3Description: Package Specification; ComponentLink3URL: http://cds.linear.com/docs/en/packaging/SOT_5_05-08-1635.pdf
footprint LT-S5-5-TSOT-23_N (SOT23, 5-Leads, Body 2.90x1.63mm, Pitch 0.95mm, IPC Medium Density)
footprint LT-S5-5-TSOT-23_L (SOT23, 5-Leads, Body 2.90x1.63mm, Pitch 0.95mm, IPC High Density)
footprint LT-S5-5-TSOT-23_M (SOT23, 5-Leads, Body 2.90x1.63mm, Pitch 0.95mm, IPC Low Density)
pins: 1 OUT (out), 2 V- (power), 3 +IN (in), 4 -IN (in), 5 V+ (power)

## LT1784CS5#PBF
designator U?
Single Channel, Low Power Operational Amplifier with Shutdown, RRIO, 2.5 MHz Typical GBW, 2.1 V/us Typical SR, 2 to 18 V, 5-Pin SOT23 (S5-5), Commercial, Pb-Free; Linear Technology Part Number: LT1784; Manufacturer: Linear Technology; PartNumber: LT1784CS5#PBF; Channels (#): 1; GBW (MHz) Typical: 2.5; Is (mA) Typical: 0.5; SR (V/us) Typical: 2.1; Vos (mV) Guaranteed: 3.5; Vos (mV) Typical: 1.5; Vs Max (V): 18; Vs Min (V): 2; DatasheetVersion: Rev. A; PackageReference: LT-S5-5-TSOT-23; PackageDescription: 5-Lead Plastic TSOT-23, Body 1.63 x 2.90 mm, Pitch 0.95 mm; Supplier 1: Newark; Supplier Part Number 1: 78T3718; RoHS: Pb-Free; Type: VFB; Mounting Technology: Surface Mount; Code_JEDEC: MO-193; ComponentLink1Description: Manufacturer URL; ComponentLink1URL: http://www.linear.com/; ComponentLink2Description: Datasheet; ComponentLink2URL: http://cds.linear.com/docs/en/datasheet/1784fa.pdf; ComponentLink3Description: Package Specification; ComponentLink3URL: http://cds.linear.com/docs/en/packaging/SOT_5_05-08-1635.pdf
footprint LT-S5-5-TSOT-23_N (SOT23, 5-Leads, Body 2.90x1.63mm, Pitch 0.95mm, IPC Medium Density)
footprint LT-S5-5-TSOT-23_L (SOT23, 5-Leads, Body 2.90x1.63mm, Pitch 0.95mm, IPC High Density)
footprint LT-S5-5-TSOT-23_M (SOT23, 5-Leads, Body 2.90x1.63mm, Pitch 0.95mm, IPC Low Density)
pins: 1 OUT (out), 2 V- (power), 3 +IN (in), 4 -IN (in), 5 V+ (power)

## LT1784CS5#TR
designator U?
Single Channel, Low Power Operational Amplifier with Shutdown, RRIO, 2.5 MHz Typical GBW, 2.1 V/us Typical SR, 2 to 18 V, 5-Pin SOT23 (S5-5), Commercial, Reel; Linear Technology Part Number: LT1784; Manufacturer: Linear Technology; PartNumber: LT1784CS5#TR; Channels (#): 1; GBW (MHz) Typical: 2.5; Is (mA) Typical: 0.5; SR (V/us) Typical: 2.1; Vos (mV) Guaranteed: 3.5; Vos (mV) Typical: 1.5; Vs Max (V): 18; Vs Min (V): 2; DatasheetVersion: Rev. A; PackageReference: LT-S5-5-TSOT-23; PackageDescription: 5-Lead Plastic TSOT-23, Body 1.63 x 2.90 mm, Pitch 0.95 mm; Supplier 1: Digi-Key; Supplier Part Number 1: LT1784CS5#TR-ND; Packing: Reel; Type: VFB; Mounting Technology: Surface Mount; Code_JEDEC: MO-193; ComponentLink1Description: Manufacturer URL; ComponentLink1URL: http://www.linear.com/; ComponentLink2Description: Datasheet; ComponentLink2URL: http://cds.linear.com/docs/en/datasheet/1784fa.pdf; ComponentLink3Description: Package Specification; ComponentLink3URL: http://cds.linear.com/docs/en/packaging/SOT_5_05-08-1635.pdf
footprint LT-S5-5-TSOT-23_N (SOT23, 5-Leads, Body 2.90x1.63mm, Pitch 0.95mm, IPC Medium Density)
footprint LT-S5-5-TSOT-23_L (SOT23, 5-Leads, Body 2.90x1.63mm, Pitch 0.95mm, IPC High Density)
footprint LT-S5-5-TSOT-23_M (SOT23, 5-Leads, Body 2.90x1.63mm, Pitch 0.95mm, IPC Low Density)
pins: 1 OUT (out), 2 V- (power), 3 +IN (in), 4 -IN (in), 5 V+ (power)

## LT1784CS5#TRM
designator U?
Single Channel, Low Power Operational Amplifier with Shutdown, RRIO, 2.5 MHz Typical GBW, 2.1 V/us Typical SR, 2 to 18 V, 5-Pin SOT23 (S5-5), Commercial, Mini Reel; Linear Technology Part Number: LT1784; Manufacturer: Linear Technology; PartNumber: LT1784CS5#TRM; Channels (#): 1; GBW (MHz) Typical: 2.5; Is (mA) Typical: 0.5; SR (V/us) Typical: 2.1; Vos (mV) Guaranteed: 3.5; Vos (mV) Typical: 1.5; Vs Max (V): 18; Vs Min (V): 2; DatasheetVersion: Rev. A; PackageReference: LT-S5-5-TSOT-23; PackageDescription: 5-Lead Plastic TSOT-23, Body 1.63 x 2.90 mm, Pitch 0.95 mm; Supplier 1: Digi-Key; Supplier Part Number 1: LT1784CS5#TRMTR-ND; Supplier 2: Digi-Key; Supplier Part Number 2: LT1784CS5#TRMCT-ND; Packing: Mini Reel; Type: VFB; Mounting Technology: Surface Mount; Code_JEDEC: MO-193; ComponentLink1Description: Manufacturer URL; ComponentLink1URL: http://www.linear.com/; ComponentLink2Description: Datasheet; ComponentLink2URL: http://cds.linear.com/docs/en/datasheet/1784fa.pdf; ComponentLink3Description: Package Specification; ComponentLink3URL: http://cds.linear.com/docs/en/packaging/SOT_5_05-08-1635.pdf
footprint LT-S5-5-TSOT-23_N (SOT23, 5-Leads, Body 2.90x1.63mm, Pitch 0.95mm, IPC Medium Density)
footprint LT-S5-5-TSOT-23_L (SOT23, 5-Leads, Body 2.90x1.63mm, Pitch 0.95mm, IPC High Density)
footprint LT-S5-5-TSOT-23_M (SOT23, 5-Leads, Body 2.90x1.63mm, Pitch 0.95mm, IPC Low Density)
pins: 1 OUT (out), 2 V- (power), 3 +IN (in), 4 -IN (in), 5 V+ (power)

## LT1784CS5#TRMPBF
designator U?
Single Channel, Low Power Operational Amplifier with Shutdown, RRIO, 2.5 MHz Typical GBW, 2.1 V/us Typical SR, 2 to 18 V, 5-Pin SOT23 (S5-5), Commercial, Pb-Free, Mini Reel; Linear Technology Part Number: LT1784; Manufacturer: Linear Technology; PartNumber: LT1784CS5#TRMPBF; Channels (#): 1; GBW (MHz) Typical: 2.5; Is (mA) Typical: 0.5; SR (V/us) Typical: 2.1; Vos (mV) Guaranteed: 3.5; Vos (mV) Typical: 1.5; Vs Max (V): 18; Vs Min (V): 2; DatasheetVersion: Rev. A; PackageReference: LT-S5-5-TSOT-23; PackageDescription: 5-Lead Plastic TSOT-23, Body 1.63 x 2.90 mm, Pitch 0.95 mm; Supplier 1: Digi-Key; Supplier Part Number 1: LT1784CS5#TRMPBFTR-ND; Supplier 2: Digi-Key; Supplier Part Number 2: LT1784CS5#TRMPBFCT-ND; Supplier 3: Digi-Key; Supplier Part Number 3: LT1784CS5#TRMPBFDKR-ND; Supplier 4: Newark; Supplier Part Number 4: 57M6388; Packing: Mini Reel; RoHS: Pb-Free; Type: VFB; Mounting Technology: Surface Mount; Code_JEDEC: MO-193; ComponentLink1Description: Manufacturer URL; ComponentLink1URL: http://www.linear.com/; ComponentLink2Description: Datasheet; ComponentLink2URL: http://cds.linear.com/docs/en/datasheet/1784fa.pdf; ComponentLink3Description: Package Specification; ComponentLink3URL: http://cds.linear.com/docs/en/packaging/SOT_5_05-08-1635.pdf
footprint LT-S5-5-TSOT-23_N (SOT23, 5-Leads, Body 2.90x1.63mm, Pitch 0.95mm, IPC Medium Density)
footprint LT-S5-5-TSOT-23_L (SOT23, 5-Leads, Body 2.90x1.63mm, Pitch 0.95mm, IPC High Density)
footprint LT-S5-5-TSOT-23_M (SOT23, 5-Leads, Body 2.90x1.63mm, Pitch 0.95mm, IPC Low Density)
pins: 1 OUT (out), 2 V- (power), 3 +IN (in), 4 -IN (in), 5 V+ (power)

## LT1784CS5#TRPBF
designator U?
Single Channel, Low Power Operational Amplifier with Shutdown, RRIO, 2.5 MHz Typical GBW, 2.1 V/us Typical SR, 2 to 18 V, 5-Pin SOT23 (S5-5), Commercial, Pb-Free, Reel; Linear Technology Part Number: LT1784; Manufacturer: Linear Technology; PartNumber: LT1784CS5#TRPBF; Channels (#): 1; GBW (MHz) Typical: 2.5; Is (mA) Typical: 0.5; SR (V/us) Typical: 2.1; Vos (mV) Guaranteed: 3.5; Vos (mV) Typical: 1.5; Vs Max (V): 18; Vs Min (V): 2; DatasheetVersion: Rev. A; PackageReference: LT-S5-5-TSOT-23; PackageDescription: 5-Lead Plastic TSOT-23, Body 1.63 x 2.90 mm, Pitch 0.95 mm; Supplier 1: Digi-Key; Supplier Part Number 1: LT1784CS5#TRPBF-ND; Supplier 2: Newark; Supplier Part Number 2: 57M6389; Packing: Reel; RoHS: Pb-Free; Type: VFB; Mounting Technology: Surface Mount; Code_JEDEC: MO-193; ComponentLink1Description: Manufacturer URL; ComponentLink1URL: http://www.linear.com/; ComponentLink2Description: Datasheet; ComponentLink2URL: http://cds.linear.com/docs/en/datasheet/1784fa.pdf; ComponentLink3Description: Package Specification; ComponentLink3URL: http://cds.linear.com/docs/en/packaging/SOT_5_05-08-1635.pdf
footprint LT-S5-5-TSOT-23_N (SOT23, 5-Leads, Body 2.90x1.63mm, Pitch 0.95mm, IPC Medium Density)
footprint LT-S5-5-TSOT-23_L (SOT23, 5-Leads, Body 2.90x1.63mm, Pitch 0.95mm, IPC High Density)
footprint LT-S5-5-TSOT-23_M (SOT23, 5-Leads, Body 2.90x1.63mm, Pitch 0.95mm, IPC Low Density)
pins: 1 OUT (out), 2 V- (power), 3 +IN (in), 4 -IN (in), 5 V+ (power)

## LT1784CS6
designator U?
Single Channel, Low Power Operational Amplifier with Shutdown, RRIO, 2.5 MHz Typical GBW, 2.1 V/us Typical SR, 2 to 18 V, 6-Pin SOT23 (S6-6), Commercial; Linear Technology Part Number: LT1784; Manufacturer: Linear Technology; PartNumber: LT1784CS6; Channels (#): 1; GBW (MHz) Typical: 2.5; Is (mA) Typical: 0.5; SR (V/us) Typical: 2.1; Vos (mV) Guaranteed: 3.5; Vos (mV) Typical: 1.5; Vs Max (V): 18; Vs Min (V): 2; DatasheetVersion: Rev. A; PackageReference: LT-S6-6-TSOT-23; PackageDescription: 6-Pin Plastic TSOT-23, Body 2.9 x 1.63 mm, Pitch 0.95 mm; Type: VFB; Mounting Technology: Surface Mount; Code_JEDEC: MO-193; ComponentLink1Description: Manufacturer URL; ComponentLink1URL: http://www.linear.com/; ComponentLink2Description: Datasheet; ComponentLink2URL: http://cds.linear.com/docs/en/datasheet/1784fa.pdf; ComponentLink3Description: Package Specification; ComponentLink3URL: http://cds.linear.com/docs/en/packaging/SOT_6_05-08-1636.pdf
footprint LT-S6-6-TSOT-23_N (SOT23, 6-Leads, Body 2.90x1.63mm, Pitch 0.95mm, IPC Medium Density)
footprint LT-S6-6-TSOT-23_L (SOT23, 6-Leads, Body 2.90x1.63mm, Pitch 0.95mm, IPC High Density)
footprint LT-S6-6-TSOT-23_M (SOT23, 6-Leads, Body 2.90x1.63mm, Pitch 0.95mm, IPC Low Density)
pins: 1 OUT (hiz), 2 V- (power), 3 +IN (in), 4 -IN (in), 5 SHDN (in), 6 V+ (power)

## LT1784CS6#PBF
designator U?
Single Channel, Low Power Operational Amplifier with Shutdown, RRIO, 2.5 MHz Typical GBW, 2.1 V/us Typical SR, 2 to 18 V, 6-Pin SOT23 (S6-6), Commercial, Pb-Free; Linear Technology Part Number: LT1784; Manufacturer: Linear Technology; PartNumber: LT1784CS6#PBF; Channels (#): 1; GBW (MHz) Typical: 2.5; Is (mA) Typical: 0.5; SR (V/us) Typical: 2.1; Vos (mV) Guaranteed: 3.5; Vos (mV) Typical: 1.5; Vs Max (V): 18; Vs Min (V): 2; DatasheetVersion: Rev. A; PackageReference: LT-S6-6-TSOT-23; PackageDescription: 6-Pin Plastic TSOT-23, Body 2.9 x 1.63 mm, Pitch 0.95 mm; RoHS: Pb-Free; Type: VFB; Mounting Technology: Surface Mount; Code_JEDEC: MO-193; ComponentLink1Description: Manufacturer URL; ComponentLink1URL: http://www.linear.com/; ComponentLink2Description: Datasheet; ComponentLink2URL: http://cds.linear.com/docs/en/datasheet/1784fa.pdf; ComponentLink3Description: Package Specification; ComponentLink3URL: http://cds.linear.com/docs/en/packaging/SOT_6_05-08-1636.pdf
footprint LT-S6-6-TSOT-23_N (SOT23, 6-Leads, Body 2.90x1.63mm, Pitch 0.95mm, IPC Medium Density)
footprint LT-S6-6-TSOT-23_L (SOT23, 6-Leads, Body 2.90x1.63mm, Pitch 0.95mm, IPC High Density)
footprint LT-S6-6-TSOT-23_M (SOT23, 6-Leads, Body 2.90x1.63mm, Pitch 0.95mm, IPC Low Density)
pins: 1 OUT (hiz), 2 V- (power), 3 +IN (in), 4 -IN (in), 5 SHDN (in), 6 V+ (power)

## LT1784CS6#TR
designator U?
Single Channel, Low Power Operational Amplifier with Shutdown, RRIO, 2.5 MHz Typical GBW, 2.1 V/us Typical SR, 2 to 18 V, 6-Pin SOT23 (S6-6), Commercial, Reel; Linear Technology Part Number: LT1784; Manufacturer: Linear Technology; PartNumber: LT1784CS6#TR; Channels (#): 1; GBW (MHz) Typical: 2.5; Is (mA) Typical: 0.5; SR (V/us) Typical: 2.1; Vos (mV) Guaranteed: 3.5; Vos (mV) Typical: 1.5; Vs Max (V): 18; Vs Min (V): 2; DatasheetVersion: Rev. A; PackageReference: LT-S6-6-TSOT-23; PackageDescription: 6-Pin Plastic TSOT-23, Body 2.9 x 1.63 mm, Pitch 0.95 mm; Supplier 1: Digi-Key; Supplier Part Number 1: LT1784CS6#TR-ND; Packing: Reel; Type: VFB; Mounting Technology: Surface Mount; Code_JEDEC: MO-193; ComponentLink1Description: Manufacturer URL; ComponentLink1URL: http://www.linear.com/; ComponentLink2Description: Datasheet; ComponentLink2URL: http://cds.linear.com/docs/en/datasheet/1784fa.pdf; ComponentLink3Description: Package Specification; ComponentLink3URL: http://cds.linear.com/docs/en/packaging/SOT_6_05-08-1636.pdf
footprint LT-S6-6-TSOT-23_N (SOT23, 6-Leads, Body 2.90x1.63mm, Pitch 0.95mm, IPC Medium Density)
footprint LT-S6-6-TSOT-23_L (SOT23, 6-Leads, Body 2.90x1.63mm, Pitch 0.95mm, IPC High Density)
footprint LT-S6-6-TSOT-23_M (SOT23, 6-Leads, Body 2.90x1.63mm, Pitch 0.95mm, IPC Low Density)
pins: 1 OUT (hiz), 2 V- (power), 3 +IN (in), 4 -IN (in), 5 SHDN (in), 6 V+ (power)

## LT1784CS6#TRM
designator U?
Single Channel, Low Power Operational Amplifier with Shutdown, RRIO, 2.5 MHz Typical GBW, 2.1 V/us Typical SR, 2 to 18 V, 6-Pin SOT23 (S6-6), Commercial, Mini Reel; Linear Technology Part Number: LT1784; Manufacturer: Linear Technology; PartNumber: LT1784CS6#TRM; Channels (#): 1; GBW (MHz) Typical: 2.5; Is (mA) Typical: 0.5; SR (V/us) Typical: 2.1; Vos (mV) Guaranteed: 3.5; Vos (mV) Typical: 1.5; Vs Max (V): 18; Vs Min (V): 2; DatasheetVersion: Rev. A; PackageReference: LT-S6-6-TSOT-23; PackageDescription: 6-Pin Plastic TSOT-23, Body 2.9 x 1.63 mm, Pitch 0.95 mm; Supplier 1: Digi-Key; Supplier Part Number 1: LT1784CS6#TRMTR-ND; Supplier 2: Digi-Key; Supplier Part Number 2: LT1784CS6#TRMCT-ND; Packing: Mini Reel; Type: VFB; Mounting Technology: Surface Mount; Code_JEDEC: MO-193; ComponentLink1Description: Manufacturer URL; ComponentLink1URL: http://www.linear.com/; ComponentLink2Description: Datasheet; ComponentLink2URL: http://cds.linear.com/docs/en/datasheet/1784fa.pdf; ComponentLink3Description: Package Specification; ComponentLink3URL: http://cds.linear.com/docs/en/packaging/SOT_6_05-08-1636.pdf
footprint LT-S6-6-TSOT-23_N (SOT23, 6-Leads, Body 2.90x1.63mm, Pitch 0.95mm, IPC Medium Density)
footprint LT-S6-6-TSOT-23_L (SOT23, 6-Leads, Body 2.90x1.63mm, Pitch 0.95mm, IPC High Density)
footprint LT-S6-6-TSOT-23_M (SOT23, 6-Leads, Body 2.90x1.63mm, Pitch 0.95mm, IPC Low Density)
pins: 1 OUT (hiz), 2 V- (power), 3 +IN (in), 4 -IN (in), 5 SHDN (in), 6 V+ (power)

## LT1784CS6#TRMPBF
designator U?
Single Channel, Low Power Operational Amplifier with Shutdown, RRIO, 2.5 MHz Typical GBW, 2.1 V/us Typical SR, 2 to 18 V, 6-Pin SOT23 (S6-6), Commercial, Pb-Free, Mini Reel; Linear Technology Part Number: LT1784; Manufacturer: Linear Technology; PartNumber: LT1784CS6#TRMPBF; Channels (#): 1; GBW (MHz) Typical: 2.5; Is (mA) Typical: 0.5; SR (V/us) Typical: 2.1; Vos (mV) Guaranteed: 3.5; Vos (mV) Typical: 1.5; Vs Max (V): 18; Vs Min (V): 2; DatasheetVersion: Rev. A; PackageReference: LT-S6-6-TSOT-23; PackageDescription: 6-Pin Plastic TSOT-23, Body 2.9 x 1.63 mm, Pitch 0.95 mm; Supplier 1: Digi-Key; Supplier Part Number 1: LT1784CS6#TRMPBFTR-ND; Supplier 2: Digi-Key; Supplier Part Number 2: LT1784CS6#TRMPBFCT-ND; Supplier 3: Digi-Key; Supplier Part Number 3: LT1784CS6#TRMPBFDKR-ND; Supplier 4: Newark; Supplier Part Number 4: 57M6392; Packing: Mini Reel; RoHS: Pb-Free; Type: VFB; Mounting Technology: Surface Mount; Code_JEDEC: MO-193; ComponentLink1Description: Manufacturer URL; ComponentLink1URL: http://www.linear.com/; ComponentLink2Description: Datasheet; ComponentLink2URL: http://cds.linear.com/docs/en/datasheet/1784fa.pdf; ComponentLink3Description: Package Specification; ComponentLink3URL: http://cds.linear.com/docs/en/packaging/SOT_6_05-08-1636.pdf
footprint LT-S6-6-TSOT-23_N (SOT23, 6-Leads, Body 2.90x1.63mm, Pitch 0.95mm, IPC Medium Density)
footprint LT-S6-6-TSOT-23_L (SOT23, 6-Leads, Body 2.90x1.63mm, Pitch 0.95mm, IPC High Density)
footprint LT-S6-6-TSOT-23_M (SOT23, 6-Leads, Body 2.90x1.63mm, Pitch 0.95mm, IPC Low Density)
pins: 1 OUT (hiz), 2 V- (power), 3 +IN (in), 4 -IN (in), 5 SHDN (in), 6 V+ (power)

## LT1784CS6#TRPBF
designator U?
Single Channel, Low Power Operational Amplifier with Shutdown, RRIO, 2.5 MHz Typical GBW, 2.1 V/us Typical SR, 2 to 18 V, 6-Pin SOT23 (S6-6), Commercial, Pb-Free, Reel; Linear Technology Part Number: LT1784; Manufacturer: Linear Technology; PartNumber: LT1784CS6#TRPBF; Channels (#): 1; GBW (MHz) Typical: 2.5; Is (mA) Typical: 0.5; SR (V/us) Typical: 2.1; Vos (mV) Guaranteed: 3.5; Vos (mV) Typical: 1.5; Vs Max (V): 18; Vs Min (V): 2; DatasheetVersion: Rev. A; PackageReference: LT-S6-6-TSOT-23; PackageDescription: 6-Pin Plastic TSOT-23, Body 2.9 x 1.63 mm, Pitch 0.95 mm; Supplier 1: Digi-Key; Supplier Part Number 1: LT1784CS6#TRPBF-ND; Packing: Reel; RoHS: Pb-Free; Type: VFB; Mounting Technology: Surface Mount; Code_JEDEC: MO-193; ComponentLink1Description: Manufacturer URL; ComponentLink1URL: http://www.linear.com/; ComponentLink2Description: Datasheet; ComponentLink2URL: http://cds.linear.com/docs/en/datasheet/1784fa.pdf; ComponentLink3Description: Package Specification; ComponentLink3URL: http://cds.linear.com/docs/en/packaging/SOT_6_05-08-1636.pdf
footprint LT-S6-6-TSOT-23_N (SOT23, 6-Leads, Body 2.90x1.63mm, Pitch 0.95mm, IPC Medium Density)
footprint LT-S6-6-TSOT-23_L (SOT23, 6-Leads, Body 2.90x1.63mm, Pitch 0.95mm, IPC High Density)
footprint LT-S6-6-TSOT-23_M (SOT23, 6-Leads, Body 2.90x1.63mm, Pitch 0.95mm, IPC Low Density)
pins: 1 OUT (hiz), 2 V- (power), 3 +IN (in), 4 -IN (in), 5 SHDN (in), 6 V+ (power)

## LT1784IS5
designator U?
Single Channel, Low Power Operational Amplifier with Shutdown, RRIO, 2.5 MHz Typical GBW, 2.1 V/us Typical SR, 2 to 18 V, 5-Pin SOT23 (S5-5), Industrial; Linear Technology Part Number: LT1784; Manufacturer: Linear Technology; PartNumber: LT1784IS5; Channels (#): 1; GBW (MHz) Typical: 2.5; Is (mA) Typical: 0.5; SR (V/us) Typical: 2.1; Vos (mV) Guaranteed: 3.5; Vos (mV) Typical: 1.5; Vs Max (V): 18; Vs Min (V): 2; DatasheetVersion: Rev. A; PackageReference: LT-S5-5-TSOT-23; PackageDescription: 5-Lead Plastic TSOT-23, Body 1.63 x 2.90 mm, Pitch 0.95 mm; Type: VFB; Mounting Technology: Surface Mount; Code_JEDEC: MO-193; ComponentLink1Description: Manufacturer URL; ComponentLink1URL: http://www.linear.com/; ComponentLink2Description: Datasheet; ComponentLink2URL: http://cds.linear.com/docs/en/datasheet/1784fa.pdf; ComponentLink3Description: Package Specification; ComponentLink3URL: http://cds.linear.com/docs/en/packaging/SOT_5_05-08-1635.pdf
footprint LT-S5-5-TSOT-23_N (SOT23, 5-Leads, Body 2.90x1.63mm, Pitch 0.95mm, IPC Medium Density)
footprint LT-S5-5-TSOT-23_L (SOT23, 5-Leads, Body 2.90x1.63mm, Pitch 0.95mm, IPC High Density)
footprint LT-S5-5-TSOT-23_M (SOT23, 5-Leads, Body 2.90x1.63mm, Pitch 0.95mm, IPC Low Density)
pins: 1 OUT (out), 2 V- (power), 3 +IN (in), 4 -IN (in), 5 V+ (power)

## LT1784IS5#PBF
designator U?
Single Channel, Low Power Operational Amplifier with Shutdown, RRIO, 2.5 MHz Typical GBW, 2.1 V/us Typical SR, 2 to 18 V, 5-Pin SOT23 (S5-5), Industrial, Pb-Free; Linear Technology Part Number: LT1784; Manufacturer: Linear Technology; PartNumber: LT1784IS5#PBF; Channels (#): 1; GBW (MHz) Typical: 2.5; Is (mA) Typical: 0.5; SR (V/us) Typical: 2.1; Vos (mV) Guaranteed: 3.5; Vos (mV) Typical: 1.5; Vs Max (V): 18; Vs Min (V): 2; DatasheetVersion: Rev. A; PackageReference: LT-S5-5-TSOT-23; PackageDescription: 5-Lead Plastic TSOT-23, Body 1.63 x 2.90 mm, Pitch 0.95 mm; Supplier 1: Newark; Supplier Part Number 1: 78T3720; RoHS: Pb-Free; Type: VFB; Mounting Technology: Surface Mount; Code_JEDEC: MO-193; ComponentLink1Description: Manufacturer URL; ComponentLink1URL: http://www.linear.com/; ComponentLink2Description: Datasheet; ComponentLink2URL: http://cds.linear.com/docs/en/datasheet/1784fa.pdf; ComponentLink3Description: Package Specification; ComponentLink3URL: http://cds.linear.com/docs/en/packaging/SOT_5_05-08-1635.pdf
footprint LT-S5-5-TSOT-23_N (SOT23, 5-Leads, Body 2.90x1.63mm, Pitch 0.95mm, IPC Medium Density)
footprint LT-S5-5-TSOT-23_L (SOT23, 5-Leads, Body 2.90x1.63mm, Pitch 0.95mm, IPC High Density)
footprint LT-S5-5-TSOT-23_M (SOT23, 5-Leads, Body 2.90x1.63mm, Pitch 0.95mm, IPC Low Density)
pins: 1 OUT (out), 2 V- (power), 3 +IN (in), 4 -IN (in), 5 V+ (power)

## LT1784IS5#TR
designator U?
Single Channel, Low Power Operational Amplifier with Shutdown, RRIO, 2.5 MHz Typical GBW, 2.1 V/us Typical SR, 2 to 18 V, 5-Pin SOT23 (S5-5), Industrial, Reel; Linear Technology Part Number: LT1784; Manufacturer: Linear Technology; PartNumber: LT1784IS5#TR; Channels (#): 1; GBW (MHz) Typical: 2.5; Is (mA) Typical: 0.5; SR (V/us) Typical: 2.1; Vos (mV) Guaranteed: 3.5; Vos (mV) Typical: 1.5; Vs Max (V): 18; Vs Min (V): 2; DatasheetVersion: Rev. A; PackageReference: LT-S5-5-TSOT-23; PackageDescription: 5-Lead Plastic TSOT-23, Body 1.63 x 2.90 mm, Pitch 0.95 mm; Supplier 1: Digi-Key; Supplier Part Number 1: LT1784IS5#TR-ND; Packing: Reel; Type: VFB; Mounting Technology: Surface Mount; Code_JEDEC: MO-193; ComponentLink1Description: Manufacturer URL; ComponentLink1URL: http://www.linear.com/; ComponentLink2Description: Datasheet; ComponentLink2URL: http://cds.linear.com/docs/en/datasheet/1784fa.pdf; ComponentLink3Description: Package Specification; ComponentLink3URL: http://cds.linear.com/docs/en/packaging/SOT_5_05-08-1635.pdf
footprint LT-S5-5-TSOT-23_N (SOT23, 5-Leads, Body 2.90x1.63mm, Pitch 0.95mm, IPC Medium Density)
footprint LT-S5-5-TSOT-23_L (SOT23, 5-Leads, Body 2.90x1.63mm, Pitch 0.95mm, IPC High Density)
footprint LT-S5-5-TSOT-23_M (SOT23, 5-Leads, Body 2.90x1.63mm, Pitch 0.95mm, IPC Low Density)
pins: 1 OUT (out), 2 V- (power), 3 +IN (in), 4 -IN (in), 5 V+ (power)